# EAGLE library part DS1825U (library temp_sensors)
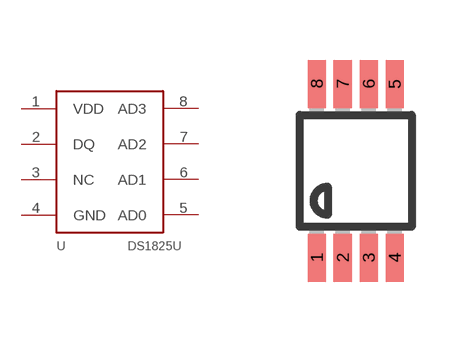
[diagram p0: symbol with the pads of UMAX8; footprint UMAX8]

Designator prefix -

## DS1825U  [UMAX8]
1  VDD
2  DQ
3  NC
4  GND
5  AD0
6  AD1
7  AD2
8  AD3

## Footprint UMAX8 (pad centres in mm)
micro MAX Package
smd 0.45 x 1.2: 1 -0.975,-2.175; 2 -0.325,-2.175; 3 0.325,-2.175; 4 0.975,-2.175; 5 0.975,2.175; 6 0.325,2.175; 7 -0.325,2.175; 8 -0.975,2.175